# EAGLE library part AS5040 (library 1AA_Stofer)
10Bit 360° Programmable Magnetic Rotary Encoder
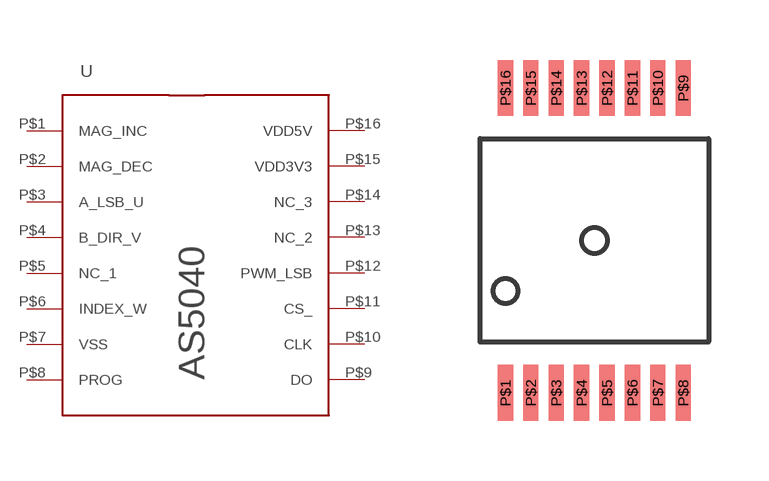
[diagram p34: symbol with the pads of AMS_5040_SPECIAL; footprint AMS_5040_SPECIAL]

Designator prefix -

## AS5040  [AMS_5040_SPECIAL]
P$1  MAG_INC
P$2  MAG_DEC
P$3  A_LSB_U
P$4  B_DIR_V
P$5  NC_1
P$6  INDEX_W
P$7  VSS
P$8  PROG
P$9  DO
P$10  CLK
P$11  CS_
P$12  PWM_LSB
P$13  NC_2
P$14  NC_3
P$15  VDD3V3
P$16  VDD5V

## Footprint AMS_5040_SPECIAL (pad centres in mm)
smd 0.381 x 1.397: P$1 0,-0.635; P$2 0.635,-0.635; P$3 1.27,-0.635; P$4 1.905,-0.635; P$5 2.54,-0.635; P$6 3.175,-0.635; P$7 3.81,-0.635; P$8 4.445,-0.635; P$9 4.445,6.985; P$10 3.81,6.985; P$11 3.175,6.985; P$12 2.54,6.985; P$13 1.905,6.985; P$14 1.27,6.985; P$15 0.635,6.985; P$16 0,6.985